# EAGLE library part DW-03-20-F-D-020 (library con_samtec2)
http://www.samtec.com/documents/webfiles/deutsche_version/EWth_D.PDF
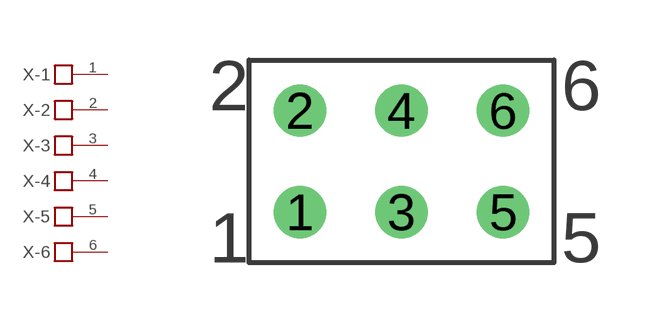
[diagram p0: symbol with the pads of DW_03X2; footprint DW_03X2]

Designator prefix X; gates -2=PIN -1=PIN -3=PIN -4=PIN -5=PIN -6=PIN

## DW-03-20-F-D-020  [DW_03X2]
1  -1:P$1
2  -2:P$1
3  -3:P$1
4  -4:P$1
5  -5:P$1
6  -6:P$1

## Footprint DW_03X2 (pad centres in mm)
drill 0.8: 1 -2.54,-1.27; 2 -2.54,1.27; 3 0,-1.27; 4 0,1.27; 5 2.54,-1.27; 6 2.54,1.27